# Altium schematic symbol library SensorConnector.SchLib: 4 symbols
Pins are listed as number, name and electrical type; pins without a type are passive.

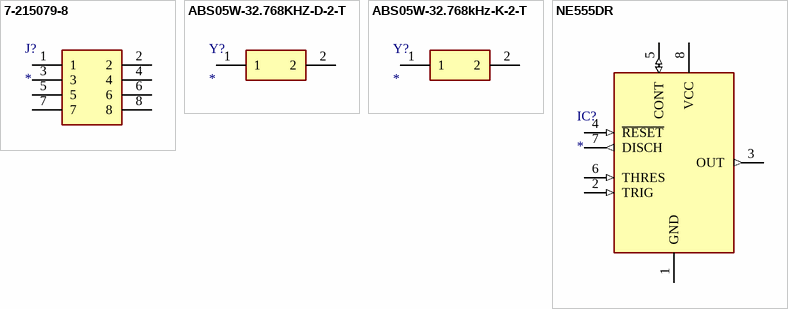
[diagram p0: symbols 7-215079-8 to NE555DR]

## 7-215079-8
designator J?
Connector; Manufacturer_Name: TE Connectivity; Manufacturer_Part_Number: 7-215079-8; Allied_Number: 70346681; Datasheet Link: http://www.farnell.com/datasheets/1699417.pdf; Mouser Part Number: 571-7-215079-8; Mouser Price/Stock: https://www.mouser.com/Search/Refine.aspx?Keyword=571-7-215079-8; RS Part Number: 3018032P; RS Price/Stock: http://uk.rs-online.com/web/p/products/3018032P; Allied Price/Stock: http://www.alliedelec.com/te-connectivity-7-215079-8/70346681/
footprint 7-215079-8
pins: 1, 2, 3, 4, 5, 6, 7, 8

## ABS05W-32.768KHZ-D-2-T
designator Y?
Crystal or Oscillator; Manufacturer_Name: ABRACON; Manufacturer_Part_Number: ABS05W-32.768KHZ-D-2-T; Datasheet Link: https://abracon.com/Resonators/ABS05W.pdf; Mouser Part Number: 815-ABS05W32.768KD2T; Mouser Price/Stock: https://www.mouser.com/Search/Refine.aspx?Keyword=815-ABS05W32.768KD2T; RS Part Number: 1741839P; RS Price/Stock: http://uk.rs-online.com/web/p/products/1741839P
footprint ABS05
pins: 1, 2

## ABS05W-32.768kHz-K-2-T
designator Y?
Crystal or Oscillator; Manufacturer_Name: ABRACON; Manufacturer_Part_Number: ABS05W-32.768kHz-K-2-T; Datasheet Link: https://abracon.com/Resonators/ABS05W.pdf; Mouser Part Number: 815-ABS05W32.768KK2T; Mouser Price/Stock: https://www.mouser.com/Search/Refine.aspx?Keyword=815-ABS05W32.768KK2T; RS Part Number: 1807725; RS Price/Stock: https://uk.rs-online.com/web/p/products/1807725
footprint ABS05
pins: 1, 2

## NE555DR
designator IC?
Integrated Circuit; Manufacturer_Name: Texas Instruments; Manufacturer_Part_Number: NE555DR; Datasheet Link: http://www.ti.com/lit/ds/symlink/ne555.pdf; Height: 1.75mm; Mouser Part Number: 595-NE555DR; Mouser Price/Stock: https://www.mouser.com/Search/Refine.aspx?Keyword=595-NE555DR; RS Part Number: 1218414; RS Price/Stock: http://uk.rs-online.com/web/p/products/1218414
footprint SOIC127P600X175-8N
pins: 1 GND (power), 2 TRIG (in), 3 OUT (out), 4 ~{RESET} (in), 5 CONT (io), 6 THRES (in), 7 DISCH (out), 8 VCC (power)